# Altium schematic symbol library 1150R ANTENNA.Schlib: 1 symbol
Pins are listed as number, name and electrical type; pins without a type are passive.

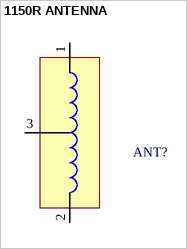
[diagram p0: symbol 1150R ANTENNA]

## 1150R ANTENNA
designator ANT?
pins: 1, 2, 3